# EAGLE library part 74*04 (library TABOR K1)
6-nasobne hradlo invertor
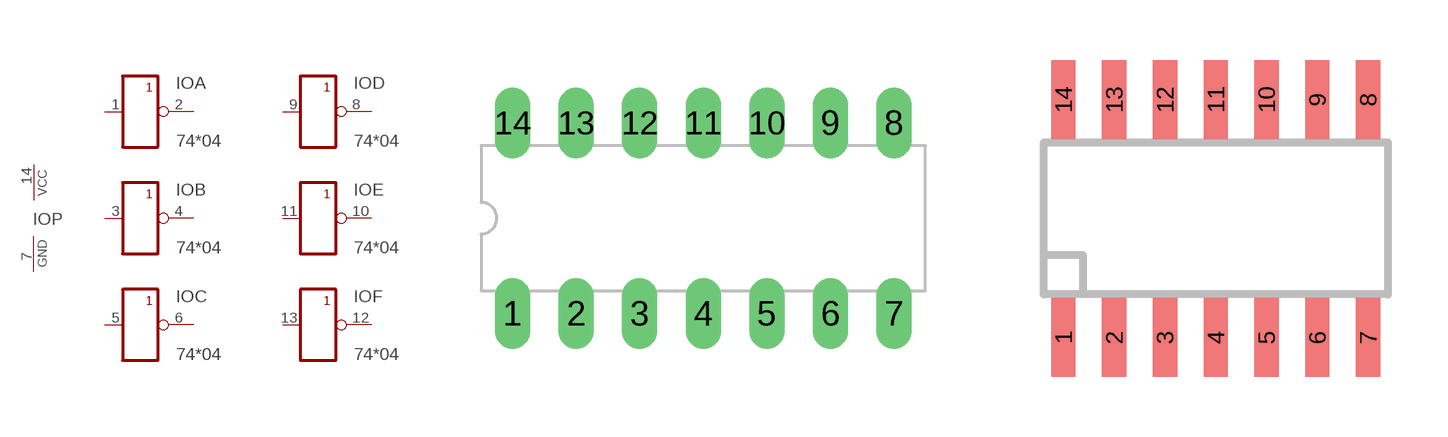
[diagram p10: symbol with the pads of DIL14; footprints DIL14, SO14]

Designator prefix IO; gates A=NOR_1 B=NOR_1 C=NOR_1 D=NOR_1 E=NOR_1 F=NOR_1 P=PWR-GND-VCC

## 7404N  [DIL14]
1  A:I1  in
2  A:O  out
3  B:I1  in
4  B:O  out
5  C:I1  in
6  C:O  out
7  P:GND  pwr
8  D:O  out
9  D:I1  in
10  E:O  out
11  E:I1  in
12  F:O  out
13  F:I1  in
14  P:VCC  pwr

## 7404SMD-SO14  [SO14]
Pads as for DIL14

## Footprint DIL14 (pad centres in mm)
Púzdro DIL14 : diera s pokovenim = 0,6 mm, vrtanie = 0,8mm
drill 0.813 pad 1.422 long: 1 -7.62,-3.81; 2 -5.08,-3.81; 3 -2.54,-3.81; 4 0,-3.81; 5 2.54,-3.81; 6 5.08,-3.81; 7 7.62,-3.81; 8 7.62,3.81; 9 5.08,3.81; 10 2.54,3.81; 11 0,3.81; 12 -2.54,3.81; 13 -5.08,3.81; 14 -7.62,3.81

## Footprint SO14 (pad centres in mm)
Puzdro SO14 : cinova ploska = 0,86 mm
smd 0.61 x 1.981: 1 -3.81,-2.972; 2 -2.54,-2.972; 3 -1.27,-2.972; 4 0,-2.972; 5 1.27,-2.972; 6 2.54,-2.972; 7 3.81,-2.972; 8 3.81,2.972; 9 2.54,2.972; 10 1.27,2.972; 11 0,2.972; 12 -1.27,2.972; 13 -2.54,2.972; 14 -3.81,2.972